# Altium footprint library components.PcbLib: 37 footprints (part 1 of 3)
Each footprint in its own frame and in the unit in brackets; x right, y up, seen from the top. Pads: shape width x height; smd on the part's side, far side on the other; paste and mask are expansions set on the pad; w line width, h text height; cw(c..) or ccw(c..) is an arc to the next point about the centre after c.
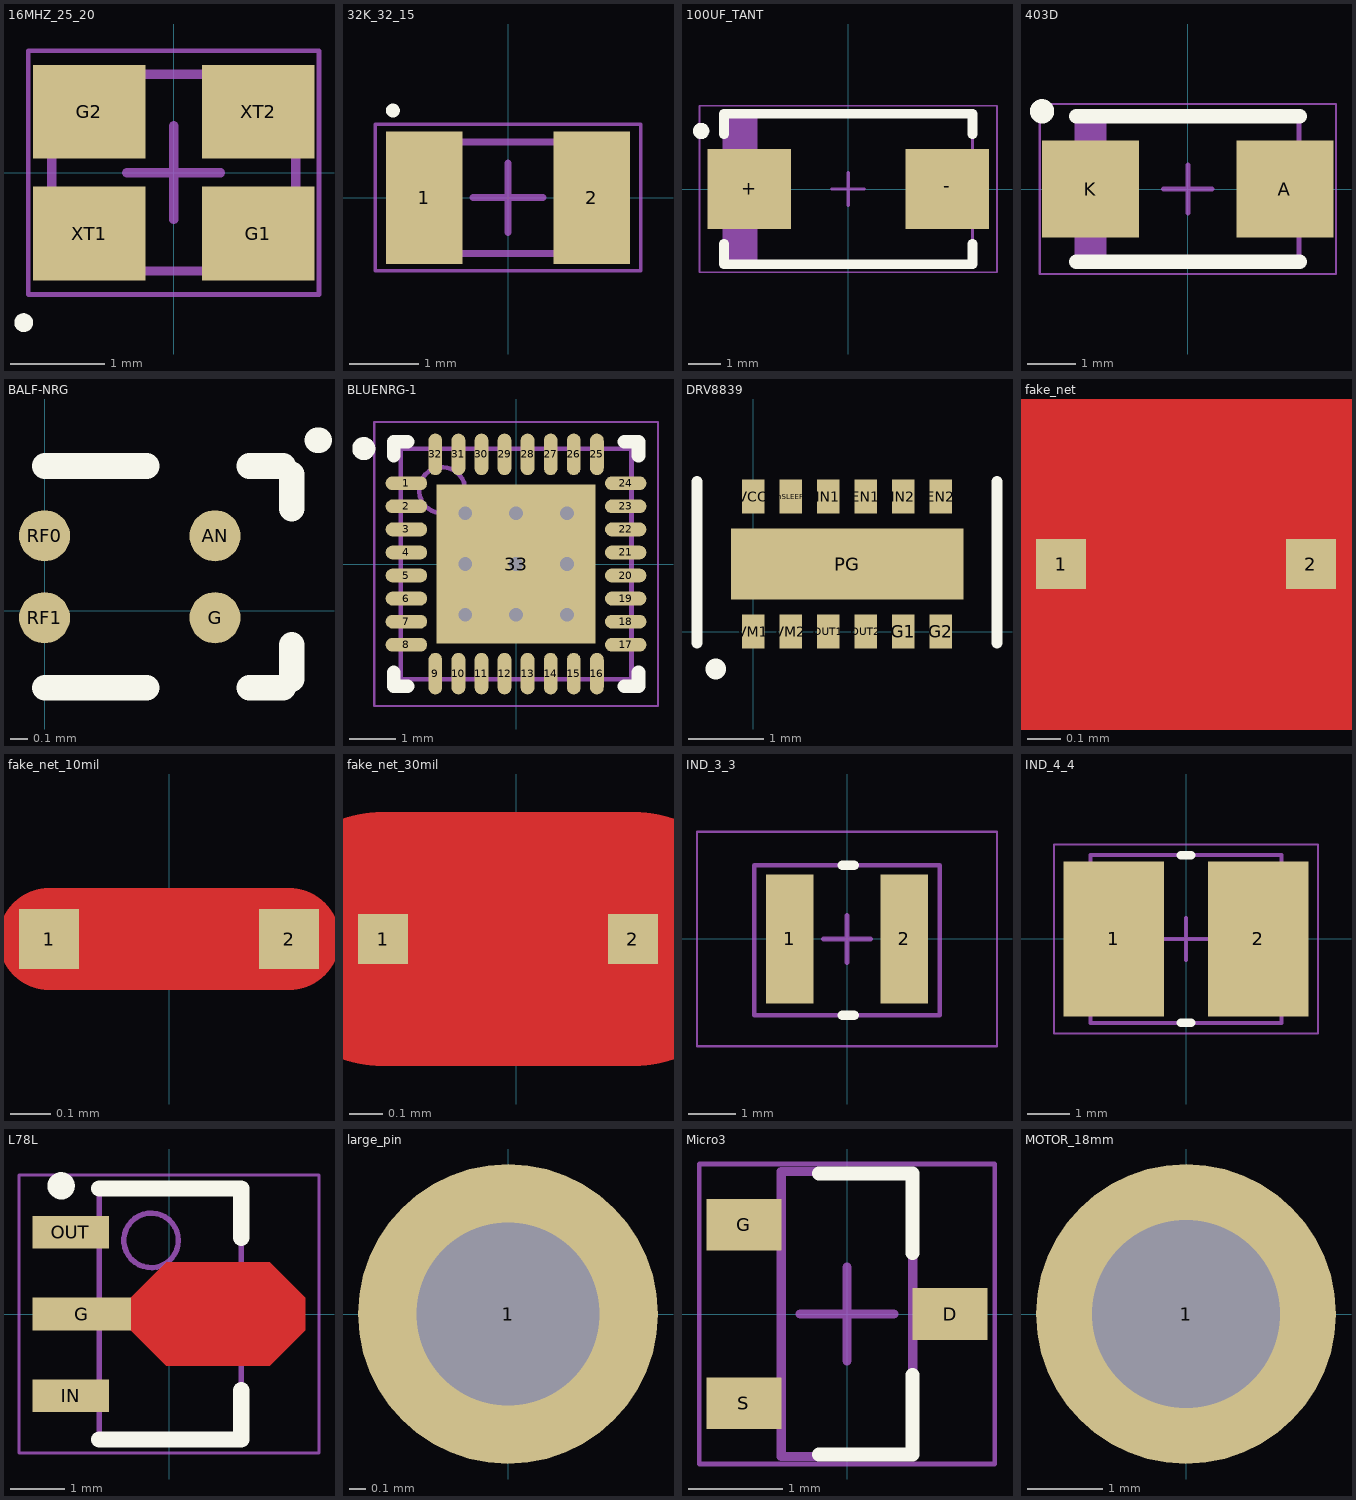
[diagram p0: the footprints below, top view; thin cyan lines are the x and y axes]

## 16MHZ_25_20 [mm] "DFN, 4-Leads, Body 2.00x2.50mm, Pitch 1.70mm, IPC Medium Density"
height 0.5
pads (4):
  rect 1.2x1 smd mask+0.08: G1(0.9,-0.65) G2(-0.9,0.65) XT1(-0.9,-0.65) XT2(0.9,0.65)
Top Overlay:
  circle w0.1: c-1.6,-1.6 r0.05
Mechanical 13:
  lines w0.1: -1.3,-1.05 -1.3,1.05 1.3,1.05 1.3,-1.05 -1.3,-1.05
Mechanical 15:
  lines w0.05: -1.55,-1.3 -1.55,1.3 1.55,1.3 1.55,-1.3 -1.55,-1.3
  lines w0.1: -0.5,0 0.5,0 ; 0,-0.5 0,0.5
3D body: height 0.5, standoff 0.01, extent -1.3,-1.05 1.3,1.05

## 32K_32_15 [mm] "DFN, 2-Leads, Body 1.50x3.20mm, Pitch 2.40mm, IPC Medium Density"
height 0.5
pads (2):
  rect 1.1x1.9 smd: 1(-1.2,0) 2(1.2,0)
Top Overlay:
  circle w0.1: c-1.65,1.25 r0.05
Mechanical 13:
  lines w0.1: -1.65,-0.8 -1.65,0.8 1.65,0.8 1.65,-0.8 -1.65,-0.8
Mechanical 15:
  lines w0.05: -1.9,-1.05 -1.9,1.05 1.9,1.05 1.9,-1.05 -1.9,-1.05
  lines w0.1: -0.5,0 0.5,0 ; 0,-0.5 0,0.5
3D body: height 0.5, standoff 0.01, extent -1.65,-0.8 1.65,0.8

## 100UF_TANT [mm]
height 2.8
pads (2):
  rect 2.55x2.45 smd: +(-3.025,0) -(3.025,0)
Top Overlay:
  circle w0.25: c-4.5,1.775 r0.125
  lines w0.3: -3.8,-1.675 -3.8,-2.3 3.8,-2.3 3.8,-1.675 ; -3.8,1.675 -3.8,2.3 3.8,2.3 3.8,1.675
Mechanical 13:
  rectangle: -3.8,-2.3 -2.778,2.3
  lines w0.1: -3.8,-2.3 -3.8,2.3 3.8,2.3 3.8,-2.3 -3.8,-2.3
Mechanical 15:
  lines w0.05: -4.55,-2.55 -4.55,2.55 4.55,2.55 4.55,-2.55 -4.55,-2.55
  lines w0.1: -0.5,0 0.5,0 ; 0,-0.5 0,0.5
3D body: height 2.8, standoff 0, extent -3.8,-2.3 3.8,2.3

## 403D [mm]
height 2.1
pads (2):
  rect 2x2 smd: A(2,0) K(-2,0)
Top Overlay:
  circle w0.25: c-3,1.6 r0.125
  lines w0.3: -2.3,-1.5 2.3,-1.5 ; -2.3,1.5 2.3,1.5 ; -2.3,1.5 2.3,1.5 ; -2.3,1.5 2.3,1.5
Mechanical 13:
  rectangle: -2.285,-1.46 -1.67,1.46
  lines w0.1: -2.285,-1.46 -2.285,1.46 2.285,1.46 2.285,-1.46 -2.285,-1.46
Mechanical 15:
  lines w0.05: -3.05,-1.75 -3.05,1.75 3.05,1.75 3.05,-1.75 -3.05,-1.75
  lines w0.1: -0.5,0 0.5,0 ; 0,-0.5 0,0.5
3D body: height 2.1, standoff 0, extent -2.285,-1.46 2.285,1.46

## BALF-NRG [mm]
pads (4):
  round 0.3 smd paste+0.1 mask+0.1: AN(1,0.44) G(1,-0.04) RF0(0,0.44) RF1(0,-0.04)
Top Overlay:
  lines w0.15: 0,-0.45 0.6,-0.45 ; 0,0.85 0.6,0.85 ; 1.2,-0.45 1.4,-0.45 ; 1.2,0.85 1.4,0.85 ; 1.45,-0.4 1.45,-0.2 ; 1.45,0.6 1.45,0.8 ; 1.6,1 1.61,1

## BLUENRG-1 [mm] "QFN, 32-Leads, Body 5.00x5.00mm, Pitch 0.50mm, Thermal Pad 3.45x3.45mm, IPC Medium Density"
height 0.8
pads (33):
  oval 0.9x0.3 smd: 1(-2.375,1.75) 2(-2.375,1.25) 3(-2.375,0.75) 4(-2.375,0.25) 5(-2.375,-0.25) 6(-2.375,-0.75) 7(-2.375,-1.25) 8(-2.375,-1.75) 17(2.375,-1.75) 18(2.375,-1.25) 19(2.375,-0.75) 20(2.375,-0.25) 21(2.375,0.25) 22(2.375,0.75) 23(2.375,1.25) 24(2.375,1.75)
  oval 0.3x0.9 smd: 9(-1.75,-2.375) 10(-1.25,-2.375) 11(-0.75,-2.375) 12(-0.25,-2.375) 13(0.25,-2.375) 14(0.75,-2.375) 15(1.25,-2.375) 16(1.75,-2.375) 25(1.75,2.375) 26(1.25,2.375) 27(0.75,2.375) 28(0.25,2.375) 29(-0.25,2.375) 30(-0.75,2.375) 31(-1.25,2.375) 32(-1.75,2.375)
  rect 3.45x3.45 smd: 33(0,0)
via 1.1,-1.1 diameter 0.5 hole 0.3
via 0,-1.1 diameter 0.5 hole 0.3
via -1.1,-1.1 diameter 0.5 hole 0.3
via 1.1,0 diameter 0.5 hole 0.3
via 0,0 diameter 0.5 hole 0.3
via -1.1,0 diameter 0.5 hole 0.3
via 1.1,1.1 diameter 0.5 hole 0.3
via 0,1.1 diameter 0.5 hole 0.3
via -1.1,1.1 diameter 0.5 hole 0.3
Top Overlay:
  circle w0.25: c-3.3,2.5 r0.125
  lines w0.3: -2.65,-2.35 -2.65,-2.65 -2.35,-2.65 ; -2.65,2.35 -2.65,2.65 -2.35,2.65 ; 2.35,-2.65 2.65,-2.65 2.65,-2.35 ; 2.35,2.65 2.65,2.65 2.65,2.35
Mechanical 13:
  circle w0.1: c-1.6,1.6 r0.5
  lines w0.1: -2.5,-2.5 2.5,-2.5 2.5,2.5 -2.5,2.5 -2.5,-2.5
Mechanical 15:
  lines w0.05: -3.075,-3.075 3.075,-3.075 3.075,3.075 -3.075,3.075 -3.075,-3.075
  lines w0.1: -0.5,0 0.5,0 ; 0,-0.5 0,0.5
3D body: height 0.8, standoff 0.01, extent -2.5,-2.5 2.5,2.5

## DRV8839 [mm]
pads (13):
  rect 0.3x0.45 smd mask+0: EN1(1.5,1.8) EN2(2.5,1.8) G1(2,0) G2(2.5,0) IN1(1,1.8) IN2(2,1.8) nSLEEP(0.5,1.8) OUT1(1,0) OUT2(1.5,0) VCC(0,1.8) VM1(0,0) VM2(0.5,0)
  rect 3.1x0.95 smd mask+0: PG(1.25,0.9)
Top Overlay:
  lines w0.15: -0.75,-0.15 -0.75,1.4 ; -0.75,0.8 -0.75,2 ; 3.25,-0.15 3.25,1.4 ; 3.25,0.8 3.25,2
  lines w0.254: -0.49,-0.502 cw(c-0.5,-0.5) -0.49,-0.5

## fake_net [mm] "fake net to short 1 and 2"
pads (2):
  rect 0.15x0.15 smd paste+0: 1(-0.4,0) 2(0.35,0)
Top Layer:
  lines w1.524: -0.4,0 0.35,0

## fake_net_10mil [mm] "fake net to short 1 and 2"
pads (2):
  rect 0.15x0.15 smd paste+0: 1(-0.3,0) 2(0.3,0)
Top Layer:
  lines w0.254: -0.3,0 0.3,0

## fake_net_30mil [mm] "fake net to short 1 and 2"
pads (2):
  rect 0.15x0.15 smd paste+0: 1(-0.4,0) 2(0.35,0)
Top Layer:
  lines w0.762: -0.4,0 0.35,0

## IND_3_3 [mm]
height 2.5
pads (2):
  rect 1x2.7 smd: 1(-1.2,0) 2(1.2,0)
Top Overlay:
  lines w0.2: -0.1,-1.6 0.15,-1.6 ; -0.1,1.55 0.15,1.55
Mechanical 13:
  lines w0.1: -1.95,-1.6 1.95,-1.6 1.95,1.55 -1.95,1.55 -1.95,-1.6
Mechanical 15:
  lines w0.05: -3.15,-2.25 3.15,-2.25 3.15,2.25 -3.15,2.25 -3.15,-2.25
  lines w0.1: -0.5,0 0.5,0 ; 0,-0.5 0,0.5
3D body: height 2.5, standoff 0, extent -2,-1.65 2,1.65

## IND_4_4 [mm]
height 2.5
pads (2):
  rect 2.4x3.7 smd: 1(-1.725,0) 2(1.725,0)
Top Overlay:
  lines w0.2: -0.125,-2 0.125,-2 ; -0.125,2 0.125,2
Mechanical 13:
  lines w0.1: -2.275,-2 2.275,-2 2.275,2 -2.275,2 -2.275,-2
Mechanical 15:
  lines w0.05: -3.15,-2.25 3.15,-2.25 3.15,2.25 -3.15,2.25 -3.15,-2.25
  lines w0.1: -0.5,0 0.5,0 ; 0,-0.5 0,0.5
3D body: height 2.5, standoff 0, extent -2.275,-2 2.275,2

## L78L [mm] "SOT89, 3-Leads, Body 4.50x2.45mm, Pitch 1.50mm, Lead Span 4.1mm, IPC Medium Density"
height 1.6
pads (3):
  rect 1.8x0.6 smd: G(-1.6,0)
  rect 1.4x0.6 smd: IN(-1.8,-1.5) OUT(-1.8,1.5)
Top Layer:
  region: -0.7,0.3 -0.05,0.95 1.85,0.95 2.5,0.3 2.5,-0.3 1.85,-0.95 -0.05,-0.95 -0.7,-0.3
Top Overlay:
  circle w0.25: c-1.977,2.35 r0.125
  lines w0.3: -1.278,-2.3 1.322,-2.3 1.322,-1.4 ; -1.278,2.3 1.322,2.3 1.322,1.4
Mechanical 13:
  circle w0.1: c-0.327,1.35 r0.5
  lines w0.1: -1.278,-2.3 1.322,-2.3 1.322,2.3 -1.278,2.3 -1.278,-2.3
Mechanical 15:
  lines w0.05: -2.75,-2.55 2.75,-2.55 2.75,2.55 -2.75,2.55 -2.75,-2.55
  lines w0.1: -0.477,0 0.523,0 ; 0.022,-0.5 0.022,0.5
3D body: height 1.6, standoff 0, extent -1.278,-2.3 1.322,2.3

## large_pin [mm]
pads (1):
  round 1.8 hole 1.1: 1(0,0)

## Micro3 [mm] "SOT23, 3-Leads, Body 2.92x2.37mm, Pitch 0.95mm, IPC High Density"
height 1.12
pads (3):
  rect 0.8x0.55 smd: D(1.1,0) G(-1.1,0.95) S(-1.1,-0.95)
Top Overlay:
  lines w0.15: -0.3,-1.5 0.7,-1.5 0.7,-0.65 ; -0.3,1.5 0.7,1.5 0.7,0.65
Mechanical 13:
  lines w0.1: -0.7,-1.52 0.7,-1.52 0.7,1.52 -0.7,1.52 -0.7,-1.52
Mechanical 15:
  lines w0.05: -1.575,-1.6 1.575,-1.6 1.575,1.6 -1.575,1.6 -1.575,-1.6
  lines w0.1: -0.5,0 0.5,0 ; 0,-0.5 0,0.5
3D body "Micro3.step": height 1.12, standoff 0, extent -1.32,-1.52 1.32,1.52

## MOTOR_18mm [mm]
pads (1):
  round 4 hole 2.5: 1(0,0)